# Altium schematic symbol library 卫星轴.SchLib: 1 symbol
Pins are listed as number, name and electrical type; pins without a type are passive.

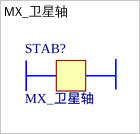
[diagram p0: symbol MX_卫星轴]

## MX_卫星轴
designator STAB?
Cherry MX Stabilizer 樱桃卫星轴
footprint 1X2 (stab)
footprint 1x6 (stab)
footprint 1x6.25 (stab)
footprint 1x7 (stab)